# EAGLE library part USB_OTG_ZX62-AB-5PA (library SLJ_Connectors)
USB OTG Connetor, SMT
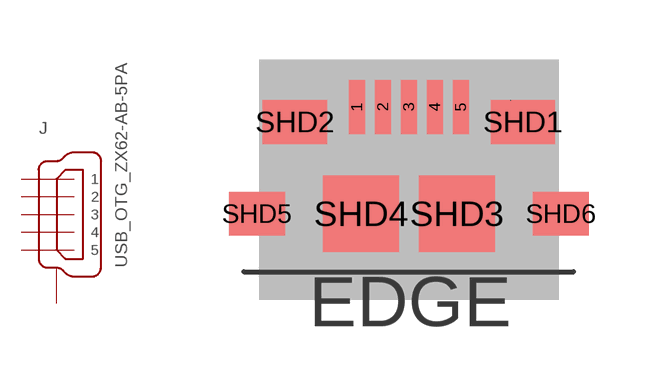
[diagram p0: symbol with the pads of USB_OTG; footprint USB_OTG]

Designator prefix J

## USB_OTG_ZX62-AB-5PA (MANUFACTURER: Hirose Electric Co.; PART_NUMBER: ZX62-AB-5PA(31))  [USB_OTG]
1  1  pas
2  2  pas
3  3  pas
4  4  pas
5  5  pas
SHD1  SHIELD  pas
SHD2  SHIELD  pas
SHD3  SHIELD  pas
SHD4  SHIELD  pas
SHD5  SHIELD  pas
SHD6  SHIELD  pas

## Footprint USB_OTG (pad centres in mm)
SMT USB OTG FOOTPRINT
smd 0.4 x 1.35: 1 -1.3,2.675; 2 -0.65,2.675; 3 0,2.675; 4 0.65,2.675; 5 1.3,2.675
smd 1.6 x 1.1: SHD1 2.85,2.3; SHD2 -2.85,2.3
smd 1.9 x 1.9: SHD3 1.2,0; SHD4 -1.2,0
smd 1.4 x 1.1: SHD5 -3.8,0; SHD6 3.8,0